# Altium footprint library do_214ac_510x270x229.PcbLib: 1 footprints
Each footprint in its own frame and in the unit in brackets; x right, y up, seen from the top. Pads: shape width x height; smd on the part's side, far side on the other; paste and mask are expansions set on the pad; w line width, h text height; cw(c..) or ccw(c..) is an arc to the next point about the centre after c.
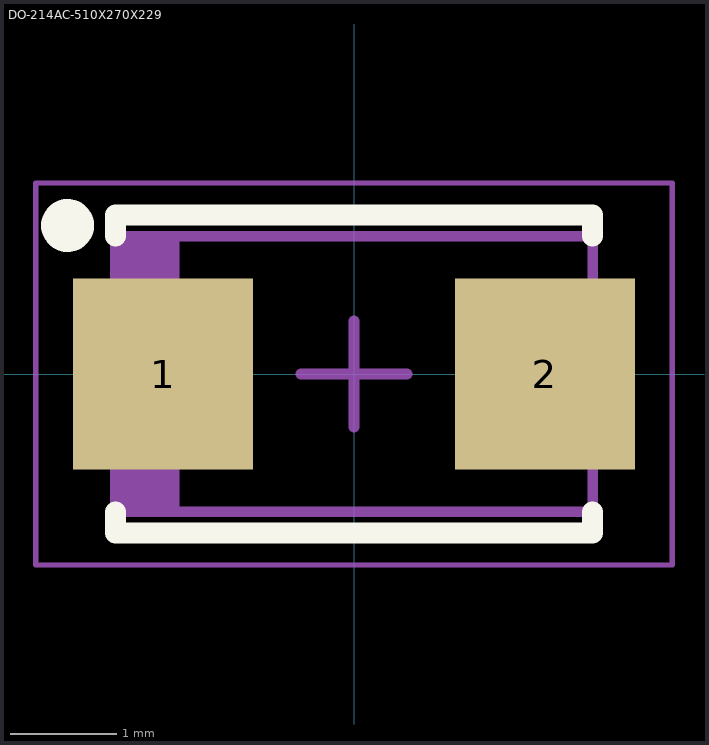
[diagram p0: the footprint, top view; thin cyan lines are the x and y axes]

## DO-214AC-510X270X229 [mm] "Molded Diode, 2-Leads, Body 5,10x2,70mm, IPC Medium Density"
height 2.29
pads (2):
  rect 1.7x1.8 smd: 1(-1.8,0) 2(1.8,0)
Top Overlay:
  circle w0.25: c-2.7,1.4 r0.125
  lines w0.2: -2.25,-1.3 -2.25,-1.5 2.25,-1.5 2.25,-1.3 ; -2.25,1.3 -2.25,1.5 2.25,1.5 2.25,1.3
Top Comment:
  text ".Comment" at 1,2 h1.2
Top Designator:
  text ".Designator" at -0.5,2 h1.2
Top Component Outline:
  rectangle: -2.25,-1.3 -1.645,1.3
  lines w0.1: -2.25,-1.3 -2.25,1.3 2.25,1.3 2.25,-1.3 -2.25,-1.3
Top Courtyard (Mech15):
  lines w0.05: -3,-1.8 -3,1.8 3,1.8 3,-1.8 -3,-1.8
  lines w0.1: -0.5,0 0.5,0 ; 0,-0.5 0,0.5
3D body "DO-214AC.STEP": height 2.26, standoff -0.03, extent -2.55,-1.3 2.55,1.3